# EAGLE library part S901E-06-ND-NEW (library S9016E-05-ND)
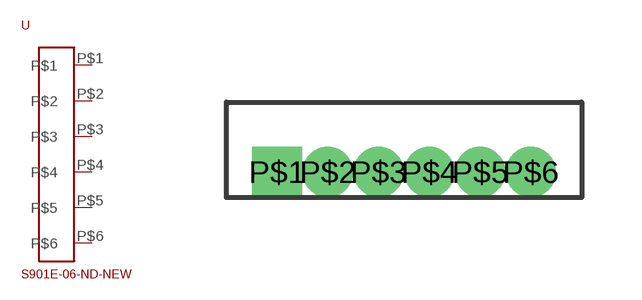
[diagram p0: symbol with the pads of S901E-05-ND-NEW; footprint S901E-05-ND-NEW]

Designator prefix -

## S901E-06-ND-NEW  [S901E-05-ND-NEW]
P$1  P$1
P$2  P$2
P$3  P$3
P$4  P$4
P$5  P$5
P$6  P$6

## Footprint S901E-05-ND-NEW (pad centres in mm)
drill 0.75 pad 1.016 square: P$1 0,0
drill 0.75 pad 1.016: P$2 1.27,0; P$3 2.54,0; P$4 3.81,0; P$5 5.08,0; P$6 6.35,0